# Altium schematic symbol library Rinobot.SchLib: 29 symbols
Pins are listed as number, name and electrical type; pins without a type are passive.

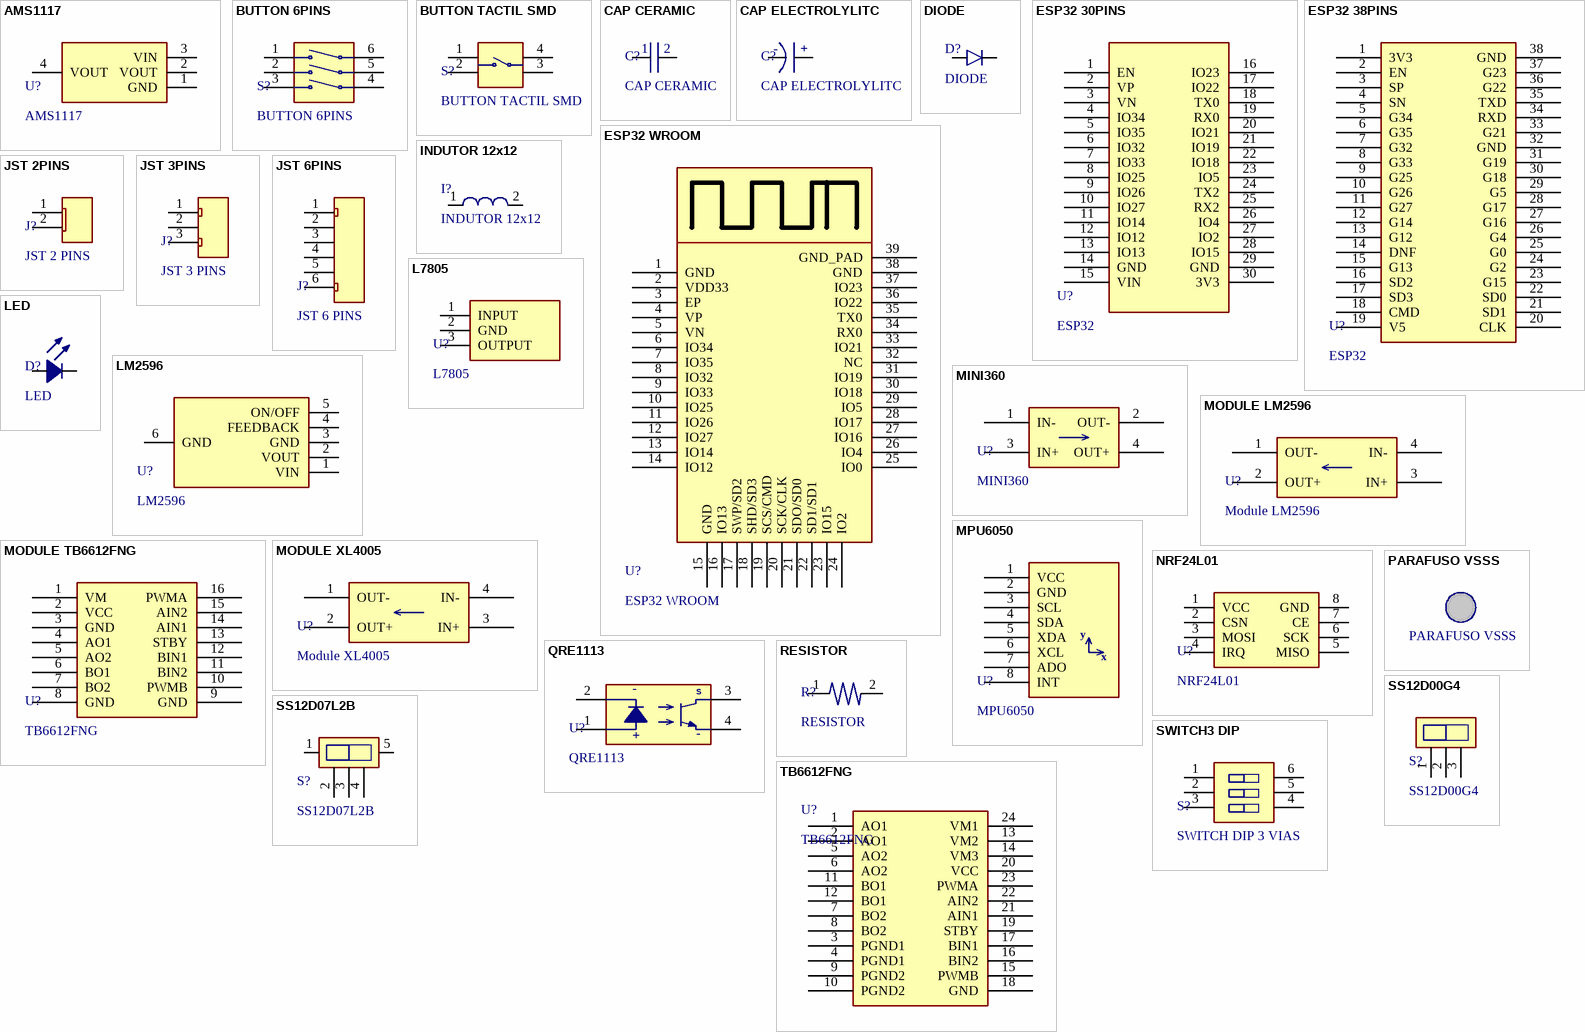
[diagram p0: symbols AMS1117 to TB6612FNG]

## AMS1117
designator U?
Voltage Regulator CI 3V3/5V
footprint AMS1117_3V3 (SOT223, 4-Leads, Body 6,51x7,00mm (avg), Pitch 2,29mm, IPC Low Density)
footprint AMS1117_5V (SOT223, 4-Leads, Body 6,51x7,00mm (avg), Pitch 2,29mm, IPC Low Density)
pins: 1 GND, 2 VOUT, 3 VIN, 4 VOUT

## BUTTON 6PINS
designator S?
Button On/Off 6 Pin
footprint BUTTON_6PIN
pins: 1, 2, 3, 4, 5, 6

## BUTTON TACTIL SMD
designator S?
footprint BUTTON_TACTIL_SMD
pins: 1, 2, 3, 4

## CAP CERAMIC
designator C?
General Ceramic Capacitor
footprint CAP_CER_0805
footprint CAP_CER_PTH
pins: 1, 2

## CAP ELECTROLYLITC
designator C?
General Electrolytic Capacitor
footprint CAP_ELECTROLYTIC
pins: 1, 2  2
text: -; +

## DIODE
designator D?
General Diode
footprint DIODE_SMD
footprint DIODE_PTH
pins: 1, 2  

## ESP32 30PINS
designator U?, comment ESP32
Microcontroller ESP32 30 pins
footprint ESP32_30
footprint ESP32_30_SOQ
pins: 1 EN, 2 VP, 3 VN, 4 IO34, 5 IO35, 6 IO32, 7 IO33, 8 IO25, 9 IO26, 10 IO27, 11 IO14, 12 IO12, 13 IO13, 14 GND, 15 VIN, 16 IO23, 17 IO22, 18 TX0, 19 RX0, 20 IO21, 21 IO19, 22 IO18, 23 IO5, 24 TX2, 25 RX2, 26 IO4, 27 IO2, 28 IO15, 29 GND, 30 3V3

## ESP32 38PINS
designator U?, comment ESP32
Microcontroller ESP32 38 pins
footprint ESP32_38
pins: 1 3V3, 2 EN, 3 SP, 4 SN, 5 G34, 6 G35, 7 G32, 8 G33, 9 G25, 10 G26, 11 G27, 12 G14, 13 G12, 14 DNF, 15 G13, 16 SD2, 17 SD3, 18 CMD, 19 V5, 20 CLK, 21 SD1, 22 SD0, 23 G15, 24 G2, 25 G0, 26 G4, 27 G16, 28 G17, 29 G5, 30 G18, 31 G19, 32 GND, 33 G21, 34 RXD, 35 TXD, 36 G22, 37 G23, 38 GND

## ESP32 WROOM
designator U?
Chip ESP32 WROOM
footprint ESP32_WROOM
pins: 1 GND, 2 VDD33, 3 EP, 4 VP, 5 VN, 6 IO34, 7 IO35, 8 IO32, 9 IO33, 10 IO25, 11 IO26, 12 IO27, 13 IO14, 14 IO12, 15 GND, 16 IO13, 17 SWP/SD2, 18 SHD/SD3, 19 SCS/CMD, 20 SCK/CLK, 21 SDO/SD0, 22 SD1/SD1, 23 IO15, 24 IO2, 25 IO0, 26 IO4, 27 IO16, 28 IO17, 29 IO5, 30 IO18, 31 IO19, 32 NC, 33 IO21, 34 RX0, 35 TX0, 36 IO22, 37 IO23, 38 GND, 39 GND_PAD

## INDUTOR 12x12
designator I?
Indutor Encapsulado 12x12
footprint INDUTOR_ENCP_12X12
pins: 1, 2

## JST 2PINS
designator J?, comment JST 2 PINS
Connector 2 pin JST
footprint JST_2pins
pins: 1, 2

## JST 3PINS
designator J?, comment JST 3 PINS
Connector 3 pin JST
footprint JST_3PINS
pins: 1, 2, 3

## JST 6PINS
designator J?, comment JST 6 PINS
Connector 6 pin JST
footprint JST_6PINS
pins: 1, 2, 3, 4, 5, 6

## L7805
designator U?
Voltage Regulator 5V
footprint L7805
footprint L7805_90
pins: 1 INPUT, 2 GND, 3 OUTPUT

## LED
designator D?
Diodo Emissor de Luz
footprint LED_5mm_BLUE
footprint LED_5mm_GREEN
footprint LED_5mm_ORANGE
footprint LED_5mm_YELLOW
footprint LED_0805_BLUE
footprint LED_0805_GREEN
footprint LED_0805_RED
footprint LED_0805_YELLOW
footprint LED_0805_WHITE
footprint LED_5mm_RED
pins: 1, 2

## LM2596
designator U?
CI Regulador de Tensão Ajustável
footprint LM2596
pins: 1 VIN, 2 VOUT, 3 GND, 4 FEEDBACK, 5 ON/OFF, 6 GND

## MINI360
designator U?
Regulador Buck Step Down DC-DC
footprint MINI360
pins: 1 IN-, 2 OUT-, 3 IN+, 4 OUT+

## MODULE LM2596
designator U?, comment Module LM2596
Regulador Buck Step Down DC-DC
footprint MODULE LM2596
pins: 1 OUT-, 2 OUT+, 3 IN+, 4 IN-

## MODULE TB6612FNG
designator U?, comment TB6612FNG
TB6612FNG Dual Motor Driver Module
footprint TB6612FND_RED
footprint TB6612FNG_RED_SOQ
pins: 1 VM, 2 VCC, 3 GND, 4 AO1, 5 AO2, 6 BO1, 7 BO2, 8 GND, 9 GND, 10 PWMB, 11 BIN2, 12 BIN1, 13 STBY, 14 AIN1, 15 AIN2, 16 PWMA

## MODULE XL4005
designator U?, comment Module XL4005
Regulador Buck Step Down DC-DC
footprint MODULE_XL4005
pins: 1 OUT-, 2 OUT+, 3 IN+, 4 IN-

## MPU6050
designator U?
Acelerômetro e Giroscópio de 3 Eixos
footprint MPU6050
footprint MPU6050_SOQ
pins: 1 VCC, 2 GND, 3 SCL, 4 SDA, 5 XDA, 6 XCL, 7 ADO, 8 INT
text: y; x

## NRF24L01
designator U?
Módulo RF Wireless 2.4GHz
footprint NRF24L01
footprint NRF24L01_SOQ
pins: 1 VCC, 2 CSN, 3 MOSI, 4 IRQ, 5 MISO, 6 SCK, 7 CE, 8 GND

## PARAFUSO VSSS
designator *
Buraco do Parafuso do VSSS
footprint PARAFUSO_VSSS

## QRE1113
designator U?
Sensor Óptico Reflexivo SMD
footprint QRE1113
pins: 1 VCC, 2 GND, 3 SIGNAL, 4 GND
text: -; S; +

## RESISTOR
designator R?
General Resistor
footprint RESISTOR_0805
footprint RESISTOR_PTH
pins: 1, 2

## SS12D00G4
designator S?
Switch On/Off 3 pins
footprint SS12D00G4
pins: 1, 2, 3

## SS12D07L2B
designator S?
Switch On/Off 5 pins
footprint SS12D07L2B
pins: 1, 2, 3, 4, 5

## SWITCH3 DIP
designator S?, comment SWITCH DIP 3 VIAS
footprint SWITCH3_DIP
pins: 1, 2, 3, 4, 5, 6

## TB6612FNG
designator U?
TB6612FNG Dual Motor Driver CI; VM: 2.5-13.5V; VCC: 2.7-5.5V
footprint TB6612FNG (TSOP, 24-Leads, Body 8,15x5,60mm, Pitch 0,65mm, IPC Low Density)
pins: 1 AO1, 2 AO1, 3 PGND1, 4 PGND1, 5 AO2, 6 AO2, 7 BO2, 8 BO2, 9 PGND2, 10 PGND2, 11 BO1, 12 BO1, 13 VM2, 14 VM3, 15 PWMB, 16 BIN2, 17 BIN1, 18 GND, 19 STBY, 20 VCC, 21 AIN1, 22 AIN2, 23 PWMA, 24 VM1